# Altium footprint library HSEC8-160-01-L-DV-A-BL.PcbLib: 1 footprints
Each footprint in its own frame and in the unit in brackets; x right, y up, seen from the top. Pads: shape width x height; smd on the part's side, far side on the other; paste and mask are expansions set on the pad; w line width, h text height; cw(c..) or ccw(c..) is an arc to the next point about the centre after c.
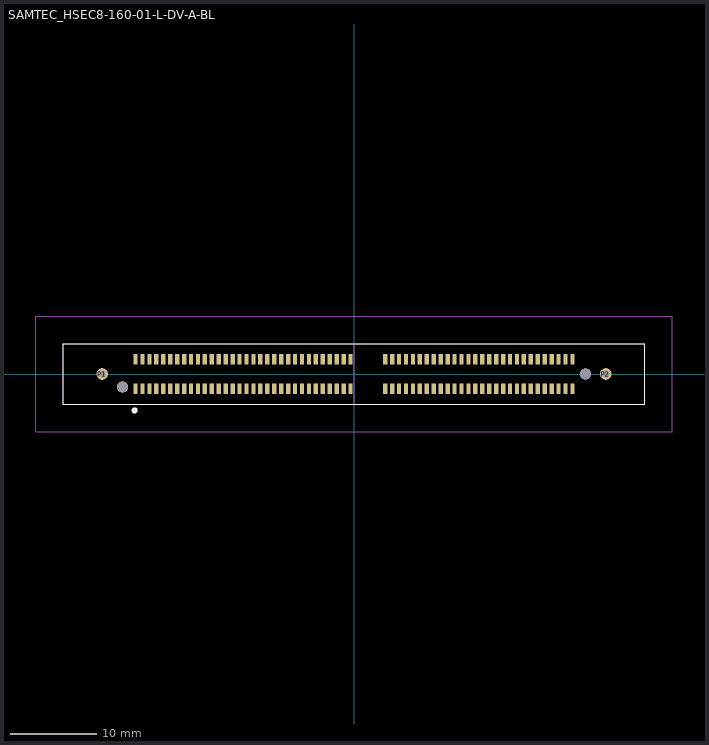
[diagram p0: the footprint, top view; thin cyan lines are the x and y axes]

## SAMTEC_HSEC8-160-01-L-DV-A-BL [mm]
pads (124):
  rect 0.5x1.2 smd: 1(-25.2,-1.7) 2(-25.2,1.7) 3(-24.4,-1.7) 4(-24.4,1.7) 5(-23.6,-1.7) 6(-23.6,1.7) 7(-22.8,-1.7) 8(-22.8,1.7) 9(-22,-1.7) 10(-22,1.7) 11(-21.2,-1.7) 12(-21.2,1.7) 13(-20.4,-1.7) 14(-20.4,1.7) 15(-19.6,-1.7) 16(-19.6,1.7) 17(-18.8,-1.7) 18(-18.8,1.7) 19(-18,-1.7) 20(-18,1.7) 21(-17.2,-1.7) 22(-17.2,1.7) 23(-16.4,-1.7) 24(-16.4,1.7) 25(-15.6,-1.7) 26(-15.6,1.7) 27(-14.8,-1.7) 28(-14.8,1.7) 29(-14,-1.7) 30(-14,1.7) 31(-13.2,-1.7) 32(-13.2,1.7) 33(-12.4,-1.7) 34(-12.4,1.7) 35(-11.6,-1.7) 36(-11.6,1.7) 37(-10.8,-1.7) 38(-10.8,1.7) 39(-10,-1.7) 40(-10,1.7) 41(-9.2,-1.7) 42(-9.2,1.7) 43(-8.4,-1.7) 44(-8.4,1.7) 45(-7.6,-1.7) 46(-7.6,1.7) 47(-6.8,-1.7) 48(-6.8,1.7) 49(-6,-1.7) 50(-6,1.7) 51(-5.2,-1.7) 52(-5.2,1.7) 53(-4.4,-1.7) 54(-4.4,1.7) 55(-3.6,-1.7) 56(-3.6,1.7) 57(-2.8,-1.7) 58(-2.8,1.7) 59(-2,-1.7) 60(-2,1.7) 61(-1.2,-1.7) 62(-1.2,1.7) 63(-0.4,-1.7) 64(-0.4,1.7) 65(3.6,-1.7) 66(3.6,1.7) 67(4.4,-1.7) 68(4.4,1.7) 69(5.2,-1.7) 70(5.2,1.7) 71(6,-1.7) 72(6,1.7) 73(6.8,-1.7) 74(6.8,1.7) 75(7.6,-1.7) 76(7.6,1.7) 77(8.4,-1.7) 78(8.4,1.7) 79(9.2,-1.7) 80(9.2,1.7) 81(10,-1.7) 82(10,1.7) 83(10.8,-1.7) 84(10.8,1.7) 85(11.6,-1.7) 86(11.6,1.7) 87(12.4,-1.7) 88(12.4,1.7) 89(13.2,-1.7) 90(13.2,1.7) 91(14,-1.7) 92(14,1.7) 93(14.8,-1.7) 94(14.8,1.7) 95(15.6,-1.7) 96(15.6,1.7) 97(16.4,-1.7) 98(16.4,1.7) 99(17.2,-1.7) 100(17.2,1.7) 101(18,-1.7) 102(18,1.7) 103(18.8,-1.7) 104(18.8,1.7) 105(19.6,-1.7) 106(19.6,1.7) 107(20.4,-1.7) 108(20.4,1.7) 109(21.2,-1.7) 110(21.2,1.7) 111(22,-1.7) 112(22,1.7) 113(22.8,-1.7) 114(22.8,1.7) 115(23.6,-1.7) 116(23.6,1.7) 117(24.4,-1.7) 118(24.4,1.7) 119(25.2,-1.7) 120(25.2,1.7)
  round 1.348 hole 0.84: P1(-29.05,0) P2(29.05,0)
  round 1.27 hole 1.27 unplated: ""(-26.7,-1.5) ""(26.7,0)
Top Overlay:
  circle w0.3: c-25.3,-4.2 r0.2
  lines w0.127: -33.525,-3.5 33.525,-3.5 33.525,3.5 -33.525,3.5 -33.525,-3.5
Mechanical 13:
  lines w0.127: 0,-3.5 0,3.5 ; 0,-3.5 33.525,-3.5 33.525,3.5 0,3.5 ; 0,-3.5 -33.525,-3.5 -33.525,3.5 0,3.5
Mechanical 15:
  lines w0.05: -36.705,-6.68 36.705,-6.68 36.705,6.68 -36.705,6.68 -36.705,-6.68